# Altium schematic symbol library SCH - DIODES - TVS - DIODES SOT-23-6.SCHLIB: 1 symbol
Pins are listed as number, name and electrical type; pins without a type are passive.

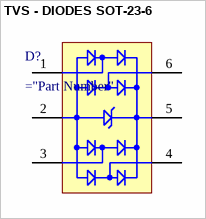
[diagram p0: symbol TVS - DIODES SOT-23-6]

## TVS - DIODES SOT-23-6
designator D?
TVS DIODE
pins: 1 I/O 1, 2 GND, 3 I/O 2, 4 I/O 3, 5 VBUS, 6 I/O 4